# Altium footprint library DCDC.PcbLib: 5 footprints
Each footprint in its own frame and in the unit in brackets; x right, y up, seen from the top. Pads: shape width x height; smd on the part's side, far side on the other; paste and mask are expansions set on the pad; w line width, h text height; cw(c..) or ccw(c..) is an arc to the next point about the centre after c.
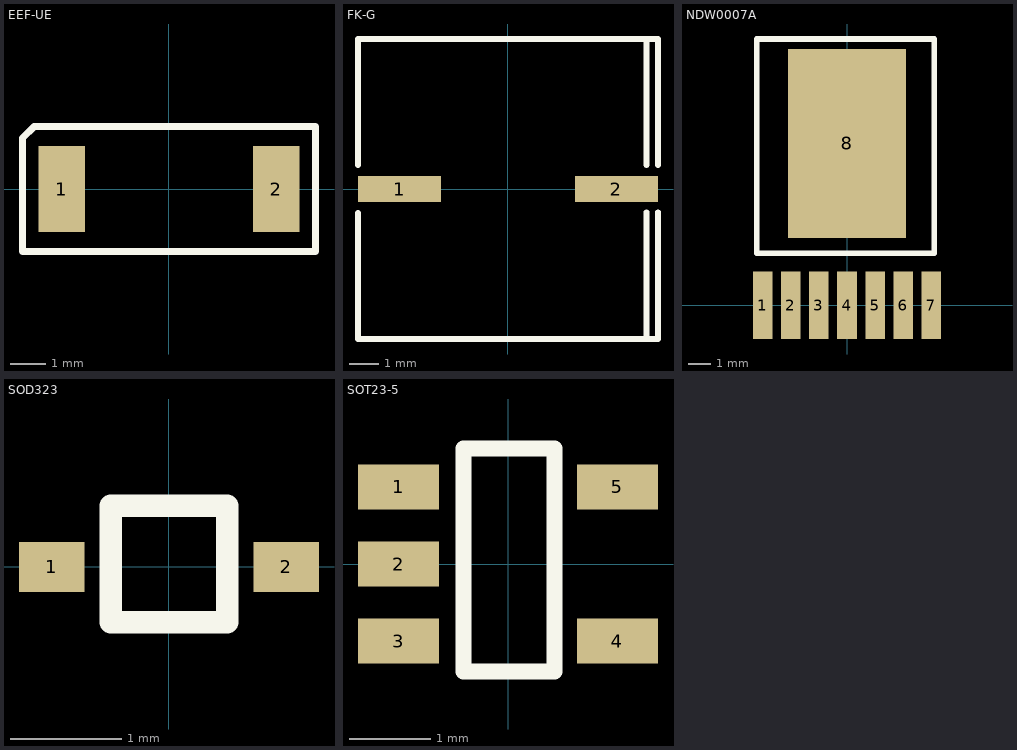
[diagram p0: the footprints below, top view; thin cyan lines are the x and y axes]

## EEF-UE [mm]
pads (2):
  rect 1.3x2.4 smd: 1(-3,0) 2(3,0)
Top Overlay:
  lines w0.2: -4.1,-1.75 4.1,-1.75 4.1,1.75 -3.775,1.75 -4.1,1.425 -4.1,-1.75

## FK-G [mm]
pads (2):
  rect 2.85x0.9 smd: 1(-3.725,0) 2(3.725,0)
Top Overlay:
  lines w0.2: -5.15,-0.825 -5.15,-5.15 5.15,-5.15 5.15,-0.8 ; -5.15,0.825 -5.15,5.15 5.15,5.15 5.15,0.825 ; 4.75,-5.15 4.75,-0.8 ; 4.75,0.825 4.75,5.125

## NDW0007A [mm]
pads (8):
  rect 0.89x3.06 smd: 1(-3.81,0) 2(-2.54,0) 3(-1.27,0) 4(0,0) 5(1.27,0) 6(2.54,0) 7(3.81,0)
  rect 5.35x8.54 smd: 8(0,7.305)
Top Overlay:
  lines w0.254: -4.075,2.35 3.95,2.35 3.95,12.025 -4.075,12.025 -4.075,2.35

## SOD323 [mm]
pads (2):
  rect 0.59x0.45 smd: 1(-1.055,0) 2(1.055,0)
Top Overlay:
  lines w0.2: -0.525,-0.5 -0.525,0.55 0.525,0.55 0.525,-0.5 -0.525,-0.5

## SOT23-5 [mm]
pads (5):
  rect 1x0.55 smd: 1(-1.35,0.95) 2(-1.35,0) 3(-1.35,-0.95) 4(1.35,-0.95) 5(1.35,0.95)
Top Overlay:
  lines w0.2: -0.55,-1.325 0.575,-1.325 0.575,1.425 -0.55,1.425 -0.55,-1.325